# Altium integrated library Cypress Peripheral Multifunction Controller.IntLib: 19 symbols
Pins are listed as number, name and electrical type; pins without a type are passive.

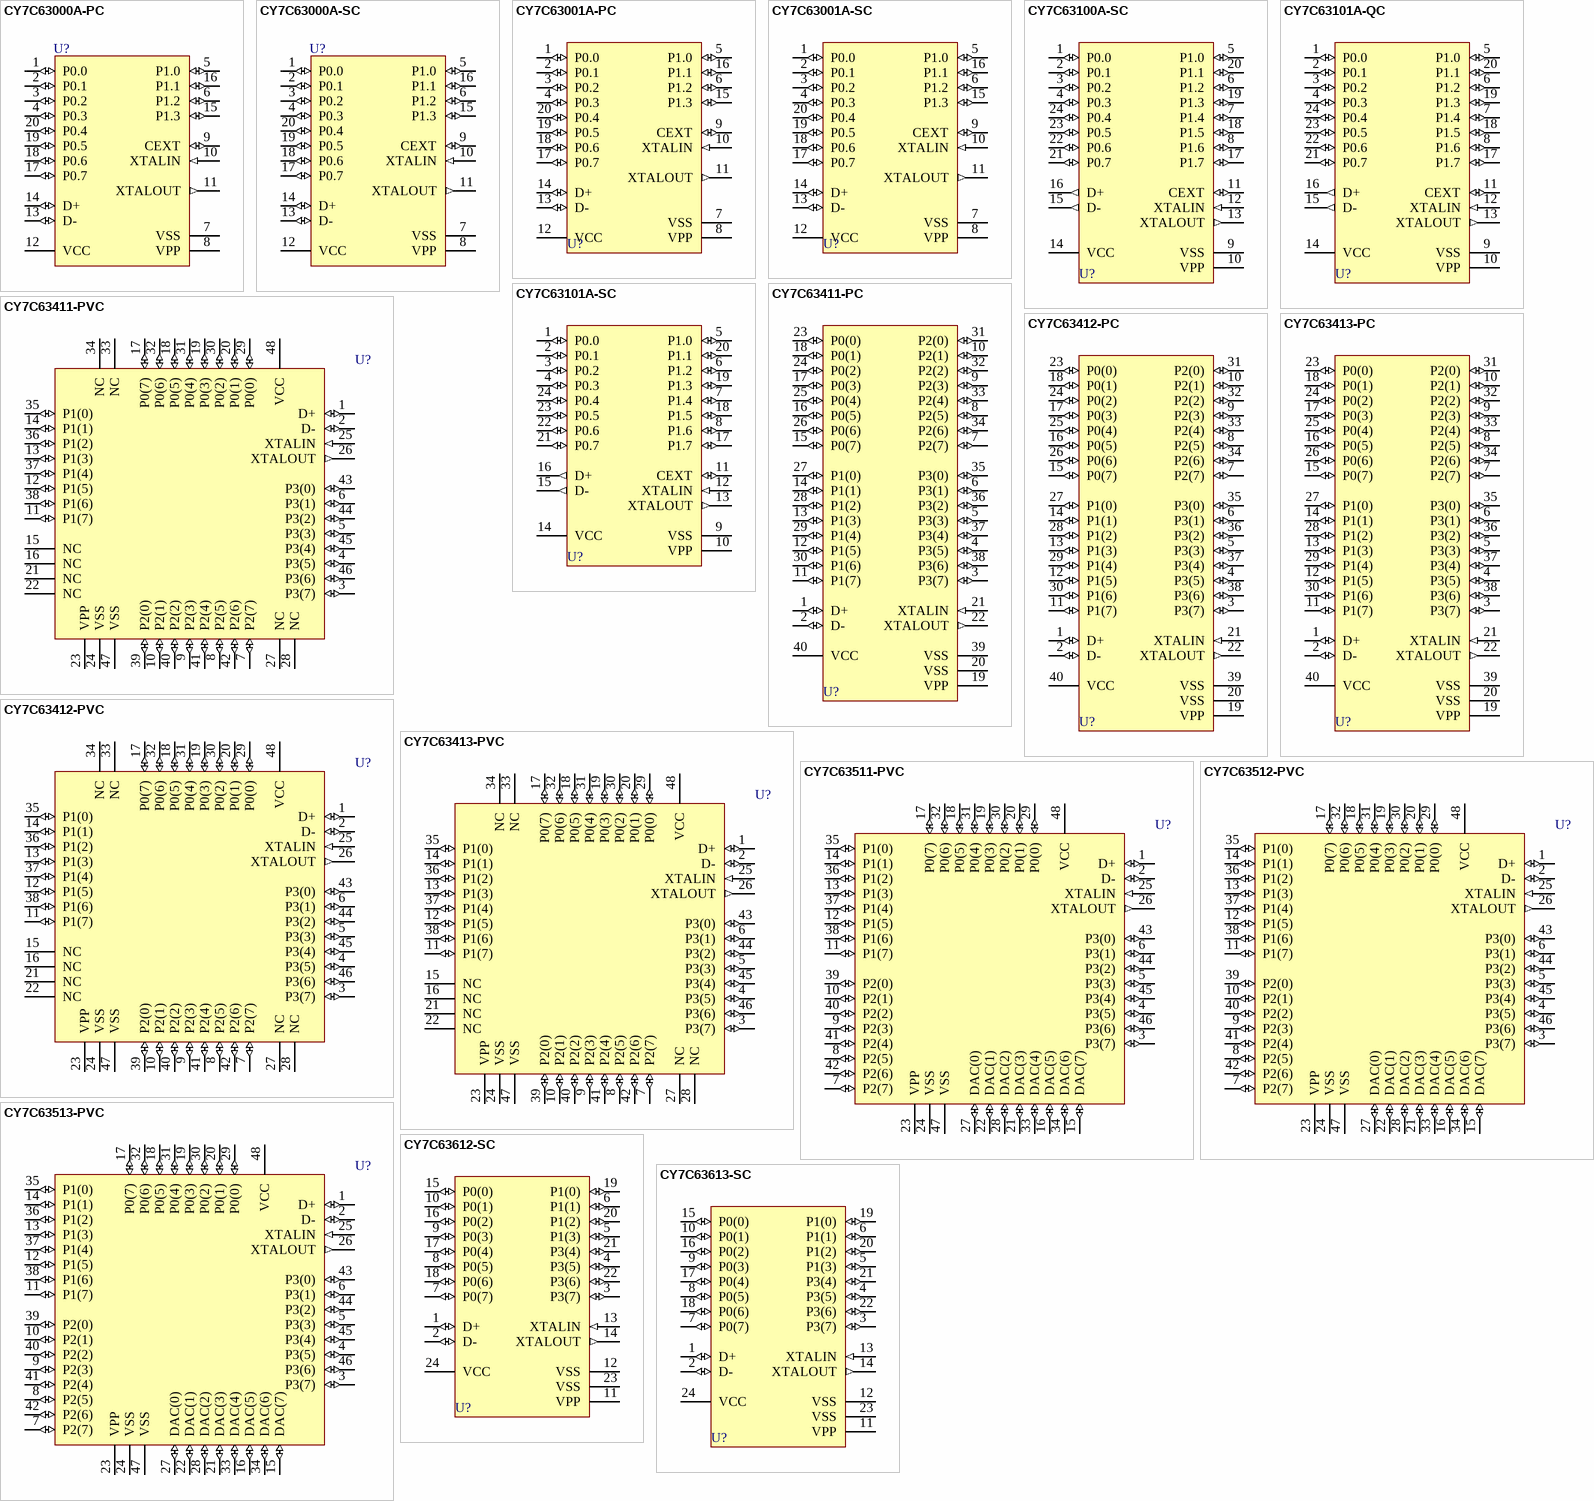
[diagram p0: symbols CY7C63000A-PC to CY7C63613-SC]

## CY7C63000A-PC
designator U?
Universal Serial Bus Microcontroller; Published: 11-Dec-2002; LatestRevisionDate: 04-Mar-2005; LatestRevisionNote: Stylized 3D Model Added.; DatasheetVersion: 24-Apr-2000; PackageVersion: Oct-2004; PackageReference: P5; Publisher: Altium Limited; PackageDescription: DIP, Molded; 20 Leads; Row Spacing 7.62 mm; Pitch 2.54 mm; Code_JEDEC: MS-001-AD; ComponentLink1Description: Manufacturer Link; ComponentLink1URL: http://www.cypress.com/
footprint P5 (DIP, Molded; 20 Leads; Row Spacing 7.62 mm; Pitch 2.54 mm)
3D model P5 (DIP, Molded; 20 Leads; Row Spacing 7.62 mm; Pitch 2.54 mm)
pins: 1 P0.0 (io), 2 P0.1 (io), 3 P0.2 (io), 4 P0.3 (io), 5 P1.0 (io), 6 P1.2 (io), 7 VSS (power), 8 VPP (power), 9 CEXT (io), 10 XTALIN (in), 11 XTALOUT (out), 12 VCC (power), 13 D- (io), 14 D+ (io), 15 P1.3 (io), 16 P1.1 (io), 17 P0.7 (io), 18 P0.6 (io), 19 P0.5 (io), 20 P0.4 (io)

## CY7C63000A-SC
designator U?
Universal Serial Bus Microcontroller; Published: 11-Dec-2002; LatestRevisionDate: 13-Apr-2006; LatestRevisionNote: IPC-7351 Footprint Added.; DatasheetVersion: 24-Apr-2000; PackageVersion: Oct-2004; PackageReference: S5; Publisher: Altium Limited; PackageDescription: 20-Pin Molded Small Outline Integrated Circuit 1.27 mm Pitch; Code_JEDEC: MS-013-AC; Code_IPC: SOIC127P1030-20; ComponentLink1Description: Manufacturer Link; ComponentLink1URL: http://www.cypress.com/
footprint S5_N (SOIC, 20-Leads, Body 12.8x7.5mm, Pitch 1.27mm, IPC Medium Density)
footprint S5_L (SOIC, 20-Leads, Body 12.8x7.5mm, Pitch 1.27mm, IPC High Density)
footprint S5_M (SOIC, 20-Leads, Body 12.8x7.5mm, Pitch 1.27mm, IPC Low Density)
3D model S5 (20-Pin Molded Small Outline Integrated Circuit 1.27 mm Pitch)
pins: 1 P0.0 (io), 2 P0.1 (io), 3 P0.2 (io), 4 P0.3 (io), 5 P1.0 (io), 6 P1.2 (io), 7 VSS (power), 8 VPP (power), 9 CEXT (io), 10 XTALIN (in), 11 XTALOUT (out), 12 VCC (power), 13 D- (io), 14 D+ (io), 15 P1.3 (io), 16 P1.1 (io), 17 P0.7 (io), 18 P0.6 (io), 19 P0.5 (io), 20 P0.4 (io)

## CY7C63001A-PC
designator U?
Universal Serial Bus Microcontroller; Published: 11-Dec-2002; LatestRevisionDate: 04-Mar-2005; LatestRevisionNote: Stylized 3D Model Added.; DatasheetVersion: 24-Apr-2000; PackageVersion: Oct-2004; PackageReference: P5; Publisher: Altium Limited; PackageDescription: DIP, Molded; 20 Leads; Row Spacing 7.62 mm; Pitch 2.54 mm; Code_JEDEC: MS-001-AD; ComponentLink1Description: Manufacturer Link; ComponentLink1URL: http://www.cypress.com/
footprint P5 (DIP, Molded; 20 Leads; Row Spacing 7.62 mm; Pitch 2.54 mm)
3D model P5 (DIP, Molded; 20 Leads; Row Spacing 7.62 mm; Pitch 2.54 mm)
pins: 1 P0.0 (io), 2 P0.1 (io), 3 P0.2 (io), 4 P0.3 (io), 5 P1.0 (io), 6 P1.2 (io), 7 VSS (power), 8 VPP (power), 9 CEXT (io), 10 XTALIN (in), 11 XTALOUT (out), 12 VCC (power), 13 D- (io), 14 D+ (io), 15 P1.3 (io), 16 P1.1 (io), 17 P0.7 (io), 18 P0.6 (io), 19 P0.5 (io), 20 P0.4 (io)

## CY7C63001A-SC
designator U?
Universal Serial Bus Microcontroller; Published: 11-Dec-2002; LatestRevisionDate: 13-Apr-2006; LatestRevisionNote: IPC-7351 Footprint Added.; DatasheetVersion: 24-Apr-2000; PackageVersion: Oct-2004; PackageReference: S5; Publisher: Altium Limited; PackageDescription: 20-Pin Molded Small Outline Integrated Circuit 1.27 mm Pitch; Code_JEDEC: MS-013-AC; Code_IPC: SOIC127P1030-20; ComponentLink1Description: Manufacturer Link; ComponentLink1URL: http://www.cypress.com/
footprint S5_N (SOIC, 20-Leads, Body 12.8x7.5mm, Pitch 1.27mm, IPC Medium Density)
footprint S5_L (SOIC, 20-Leads, Body 12.8x7.5mm, Pitch 1.27mm, IPC High Density)
footprint S5_M (SOIC, 20-Leads, Body 12.8x7.5mm, Pitch 1.27mm, IPC Low Density)
3D model S5 (20-Pin Molded Small Outline Integrated Circuit 1.27 mm Pitch)
pins: 1 P0.0 (io), 2 P0.1 (io), 3 P0.2 (io), 4 P0.3 (io), 5 P1.0 (io), 6 P1.2 (io), 7 VSS (power), 8 VPP (power), 9 CEXT (io), 10 XTALIN (in), 11 XTALOUT (out), 12 VCC (power), 13 D- (io), 14 D+ (io), 15 P1.3 (io), 16 P1.1 (io), 17 P0.7 (io), 18 P0.6 (io), 19 P0.5 (io), 20 P0.4 (io)

## CY7C63100A-SC
designator U?
Universal Serial Bus Microcontroller; Published: 11-Dec-2002; LatestRevisionDate: 13-Apr-2006; LatestRevisionNote: IPC-7351 Footprint Added.; DatasheetVersion: 24-Apr-2000; PackageVersion: Mar-2005; PackageReference: S13; Publisher: Altium Limited; PackageDescription: 24-Pin Molded Small Outline Integrated Circuit 1.27 mm Pitch; Code_JEDEC: MO-119; ComponentLink1Description: Manufacturer Link; ComponentLink1URL: http://www.cypress.com/
footprint S13_N (SOIC, 24-Leads, Body 15.4x7.5mm, Pitch 1.27mm, IPC Medium Density)
footprint S13_L (SOIC, 24-Leads, Body 15.4x7.5mm, Pitch 1.27mm, IPC High Density)
footprint S13_M (SOIC, 24-Leads, Body 15.4x7.5mm, Pitch 1.27mm, IPC Low Density)
3D model S13 (24-Pin Molded Small Outline Integrated Circuit 1.27 mm Pitch)
pins: 1 P0.0 (io), 2 P0.1 (io), 3 P0.2 (io), 4 P0.3 (io), 5 P1.0 (io), 6 P1.2 (io), 7 P1.4 (io), 8 P1.6 (io), 9 VSS (power), 10 VPP (power), 11 CEXT (io), 12 XTALIN (in), 13 XTALOUT (out), 14 VCC (power), 15 D- (out), 16 D+ (out), 17 P1.7 (io), 18 P1.5 (io), 19 P1.3 (io), 20 P1.1 (io), 21 P0.7 (io), 22 P0.6 (io), 23 P0.5 (io), 24 P0.4 (io)

## CY7C63101A-QC
designator U?
Universal Serial Bus Microcontroller; Published: 11-Dec-2002; LatestRevisionDate: 16-Oct-2006; LatestRevisionNote: IPC-7351 Footprint Added.; DatasheetVersion: 24-Apr-2000; PackageVersion: Oct-2004; PackageReference: Q13; Publisher: Altium Limited; PackageDescription: 24-Pin Small Outline Package 0.635 mm Pitch; ComponentLink1Description: Manufacturer Link; ComponentLink1URL: http://www.cypress.com/
footprint Q13_N (SOP, 24-Leads, Body 8.6x3.9mm, Pitch 0.635mm, IPC Medium Density)
footprint Q13_L (SOP, 24-Leads, Body 8.6x3.9mm, Pitch 0.635mm, IPC High Density)
footprint Q13_M (SOP, 24-Leads, Body 8.6x3.9mm, Pitch 0.635mm, IPC Low Density)
3D model Q13A (24-Pin Small Outline Package 0.635 mm Pitch)
pins: 1 P0.0 (io), 2 P0.1 (io), 3 P0.2 (io), 4 P0.3 (io), 5 P1.0 (io), 6 P1.2 (io), 7 P1.4 (io), 8 P1.6 (io), 9 VSS (power), 10 VPP (power), 11 CEXT (io), 12 XTALIN (in), 13 XTALOUT (out), 14 VCC (power), 15 D- (out), 16 D+ (out), 17 P1.7 (io), 18 P1.5 (io), 19 P1.3 (io), 20 P1.1 (io), 21 P0.7 (io), 22 P0.6 (io), 23 P0.5 (io), 24 P0.4 (io)

## CY7C63101A-SC
designator U?
Universal Serial Bus Microcontroller; Published: 11-Dec-2002; LatestRevisionDate: 13-Apr-2006; LatestRevisionNote: IPC-7351 Footprint Added.; DatasheetVersion: 24-Apr-2000; PackageVersion: Mar-2005; PackageReference: S13; Publisher: Altium Limited; PackageDescription: 24-Pin Molded Small Outline Integrated Circuit 1.27 mm Pitch; Code_JEDEC: MO-119; ComponentLink1Description: Manufacturer Link; ComponentLink1URL: http://www.cypress.com/
footprint S13_N (SOIC, 24-Leads, Body 15.4x7.5mm, Pitch 1.27mm, IPC Medium Density)
footprint S13_L (SOIC, 24-Leads, Body 15.4x7.5mm, Pitch 1.27mm, IPC High Density)
footprint S13_M (SOIC, 24-Leads, Body 15.4x7.5mm, Pitch 1.27mm, IPC Low Density)
3D model S13 (24-Pin Molded Small Outline Integrated Circuit 1.27 mm Pitch)
pins: 1 P0.0 (io), 2 P0.1 (io), 3 P0.2 (io), 4 P0.3 (io), 5 P1.0 (io), 6 P1.2 (io), 7 P1.4 (io), 8 P1.6 (io), 9 VSS (power), 10 VPP (power), 11 CEXT (io), 12 XTALIN (in), 13 XTALOUT (out), 14 VCC (power), 15 D- (out), 16 D+ (out), 17 P1.7 (io), 18 P1.5 (io), 19 P1.3 (io), 20 P1.1 (io), 21 P0.7 (io), 22 P0.6 (io), 23 P0.5 (io), 24 P0.4 (io)

## CY7C63411-PC
designator U?
Low-Speed USB Peripheral Controller; Published: 11-Dec-2002; LatestRevisionDate: 04-Mar-2005; LatestRevisionNote: Stylized 3D Model Added.; DatasheetVersion: 13-Feb-2001; PackageVersion: Mar-2005; PackageReference: P17; Publisher: Altium Limited; PackageDescription: DIP, Molded; 40 Leads; Row Spacing 15.24 mm; Pitch 2.54 mm; ComponentLink1Description: Manufacturer Link; ComponentLink1URL: http://www.cypress.com/
footprint P17 (DIP, Molded; 40 Leads; Row Spacing 15.24 mm; Pitch 2.54 mm)
3D model P17 (DIP, Molded; 40 Leads; Row Spacing 15.24 mm; Pitch 2.54 mm)
pins: 1 D+ (io), 2 D- (io), 3 P3(7) (io), 4 P3(5) (io), 5 P3(3) (io), 6 P3(1) (io), 7 P2(7) (io), 8 P2(5) (io), 9 P2(3) (io), 10 P2(1) (io), 11 P1(7) (io), 12 P1(5) (io), 13 P1(3) (io), 14 P1(1) (io), 15 P0(7) (io), 16 P0(5) (io), 17 P0(3) (io), 18 P0(1) (io), 19 VPP (power), 20 VSS (power), 21 XTALIN (in), 22 XTALOUT (out), 23 P0(0) (io), 24 P0(2) (io), 25 P0(4) (io), 26 P0(6) (io), 27 P1(0) (io), 28 P1(2) (io), 29 P1(4) (io), 30 P1(6) (io), 31 P2(0) (io), 32 P2(2) (io), 33 P2(4) (io), 34 P2(6) (io), 35 P3(0) (io), 36 P3(2) (io), 37 P3(4) (io), 38 P3(6) (io), 39 VSS (power), 40 VCC (power)

## CY7C63411-PVC
designator U?
Low-Speed USB Peripheral Controller; Published: 11-Dec-2002; LatestRevisionDate: 16-Oct-2006; LatestRevisionNote: IPC-7351 Footprint Added.; DatasheetVersion: 13-Feb-2001; PackageVersion: Mar-2005; PackageReference: O48; Publisher: Altium Limited; PackageDescription: 48-Pin Small Outline Package 0.635 mm Pitch; Code_JEDEC: MO-118-AA; Code_IPC: SOP635P1035-48; ComponentLink1Description: Manufacturer Link; ComponentLink1URL: http://www.cypress.com/
footprint O48_N (SOP, 48-Leads, Body 15.9x7.5mm, Pitch 0.635mm, IPC Medium Density)
footprint O48_L (SOP, 48-Leads, Body 15.9x7.5mm, Pitch 0.635mm, IPC High Density)
footprint O48_M (SOP, 48-Leads, Body 15.9x7.5mm, Pitch 0.635mm, IPC Low Density)
3D model O48 (48-Pin Small Outline Package 0.635 mm Pitch)
pins: 1 D+ (io), 2 D- (io), 3 P3(7) (io), 4 P3(5) (io), 5 P3(3) (io), 6 P3(1) (io), 7 P2(7) (io), 8 P2(5) (io), 9 P2(3) (io), 10 P2(1) (io), 11 P1(7) (io), 12 P1(5) (io), 13 P1(3) (io), 14 P1(1) (io), 15 NC, 16 NC, 17 P0(7) (io), 18 P0(5) (io), 19 P0(3) (io), 20 P0(1) (io), 21 NC, 22 NC, 23 VPP (power), 24 VSS (power), 25 XTALIN (in), 26 XTALOUT (out), 27 NC, 28 NC, 29 P0(0) (io), 30 P0(2) (io), 31 P0(4) (io), 32 P0(6) (io), 33 NC, 34 NC, 35 P1(0) (io), 36 P1(2) (io), 37 P1(4) (io), 38 P1(6) (io), 39 P2(0) (io), 40 P2(2) (io), 41 P2(4) (io), 42 P2(6) (io), 43 P3(0) (io), 44 P3(2) (io), 45 P3(4) (io), 46 P3(6) (io), 47 VSS (power), 48 VCC (power)

## CY7C63412-PC
designator U?
Low-Speed USB Peripheral Controller; Published: 11-Dec-2002; LatestRevisionDate: 04-Mar-2005; LatestRevisionNote: Stylized 3D Model Added.; DatasheetVersion: 13-Feb-2001; PackageVersion: Mar-2005; PackageReference: P17; Publisher: Altium Limited; PackageDescription: DIP, Molded; 40 Leads; Row Spacing 15.24 mm; Pitch 2.54 mm; ComponentLink1Description: Manufacturer Link; ComponentLink1URL: http://www.cypress.com/
footprint P17 (DIP, Molded; 40 Leads; Row Spacing 15.24 mm; Pitch 2.54 mm)
3D model P17 (DIP, Molded; 40 Leads; Row Spacing 15.24 mm; Pitch 2.54 mm)
pins: 1 D+ (io), 2 D- (io), 3 P3(7) (io), 4 P3(5) (io), 5 P3(3) (io), 6 P3(1) (io), 7 P2(7) (io), 8 P2(5) (io), 9 P2(3) (io), 10 P2(1) (io), 11 P1(7) (io), 12 P1(5) (io), 13 P1(3) (io), 14 P1(1) (io), 15 P0(7) (io), 16 P0(5) (io), 17 P0(3) (io), 18 P0(1) (io), 19 VPP (power), 20 VSS (power), 21 XTALIN (in), 22 XTALOUT (out), 23 P0(0) (io), 24 P0(2) (io), 25 P0(4) (io), 26 P0(6) (io), 27 P1(0) (io), 28 P1(2) (io), 29 P1(4) (io), 30 P1(6) (io), 31 P2(0) (io), 32 P2(2) (io), 33 P2(4) (io), 34 P2(6) (io), 35 P3(0) (io), 36 P3(2) (io), 37 P3(4) (io), 38 P3(6) (io), 39 VSS (power), 40 VCC (power)

## CY7C63412-PVC
designator U?
Low-Speed USB Peripheral Controller; Published: 11-Dec-2002; LatestRevisionDate: 16-Oct-2006; LatestRevisionNote: IPC-7351 Footprint Added.; DatasheetVersion: 13-Feb-2001; PackageVersion: Mar-2005; PackageReference: O48; Publisher: Altium Limited; PackageDescription: 48-Pin Small Outline Package 0.635 mm Pitch; Code_JEDEC: MO-118-AA; Code_IPC: SOP635P1035-48; ComponentLink1Description: Manufacturer Link; ComponentLink1URL: http://www.cypress.com/
footprint O48_N (SOP, 48-Leads, Body 15.9x7.5mm, Pitch 0.635mm, IPC Medium Density)
footprint O48_L (SOP, 48-Leads, Body 15.9x7.5mm, Pitch 0.635mm, IPC High Density)
footprint O48_M (SOP, 48-Leads, Body 15.9x7.5mm, Pitch 0.635mm, IPC Low Density)
3D model O48 (48-Pin Small Outline Package 0.635 mm Pitch)
pins: 1 D+ (io), 2 D- (io), 3 P3(7) (io), 4 P3(5) (io), 5 P3(3) (io), 6 P3(1) (io), 7 P2(7) (io), 8 P2(5) (io), 9 P2(3) (io), 10 P2(1) (io), 11 P1(7) (io), 12 P1(5) (io), 13 P1(3) (io), 14 P1(1) (io), 15 NC, 16 NC, 17 P0(7) (io), 18 P0(5) (io), 19 P0(3) (io), 20 P0(1) (io), 21 NC, 22 NC, 23 VPP (power), 24 VSS (power), 25 XTALIN (in), 26 XTALOUT (out), 27 NC, 28 NC, 29 P0(0) (io), 30 P0(2) (io), 31 P0(4) (io), 32 P0(6) (io), 33 NC, 34 NC, 35 P1(0) (io), 36 P1(2) (io), 37 P1(4) (io), 38 P1(6) (io), 39 P2(0) (io), 40 P2(2) (io), 41 P2(4) (io), 42 P2(6) (io), 43 P3(0) (io), 44 P3(2) (io), 45 P3(4) (io), 46 P3(6) (io), 47 VSS (power), 48 VCC (power)

## CY7C63413-PC
designator U?
Low-Speed USB Peripheral Controller; Published: 11-Dec-2002; LatestRevisionDate: 04-Mar-2005; LatestRevisionNote: Stylized 3D Model Added.; DatasheetVersion: 13-Feb-2001; PackageVersion: Mar-2005; PackageReference: P17; Publisher: Altium Limited; PackageDescription: DIP, Molded; 40 Leads; Row Spacing 15.24 mm; Pitch 2.54 mm; ComponentLink1Description: Manufacturer Link; ComponentLink1URL: http://www.cypress.com/
footprint P17 (DIP, Molded; 40 Leads; Row Spacing 15.24 mm; Pitch 2.54 mm)
3D model P17 (DIP, Molded; 40 Leads; Row Spacing 15.24 mm; Pitch 2.54 mm)
pins: 1 D+ (io), 2 D- (io), 3 P3(7) (io), 4 P3(5) (io), 5 P3(3) (io), 6 P3(1) (io), 7 P2(7) (io), 8 P2(5) (io), 9 P2(3) (io), 10 P2(1) (io), 11 P1(7) (io), 12 P1(5) (io), 13 P1(3) (io), 14 P1(1) (io), 15 P0(7) (io), 16 P0(5) (io), 17 P0(3) (io), 18 P0(1) (io), 19 VPP (power), 20 VSS (power), 21 XTALIN (in), 22 XTALOUT (out), 23 P0(0) (io), 24 P0(2) (io), 25 P0(4) (io), 26 P0(6) (io), 27 P1(0) (io), 28 P1(2) (io), 29 P1(4) (io), 30 P1(6) (io), 31 P2(0) (io), 32 P2(2) (io), 33 P2(4) (io), 34 P2(6) (io), 35 P3(0) (io), 36 P3(2) (io), 37 P3(4) (io), 38 P3(6) (io), 39 VSS (power), 40 VCC (power)

## CY7C63413-PVC
designator U?
Low-Speed USB Peripheral Controller; Published: 11-Dec-2002; LatestRevisionDate: 16-Oct-2006; LatestRevisionNote: IPC-7351 Footprint Added.; DatasheetVersion: 13-Feb-2001; PackageVersion: Mar-2005; PackageReference: O48; Publisher: Altium Limited; PackageDescription: 48-Pin Small Outline Package 0.635 mm Pitch; Code_JEDEC: MO-118-AA; Code_IPC: SOP635P1035-48; ComponentLink1Description: Manufacturer Link; ComponentLink1URL: http://www.cypress.com/
footprint O48_N (SOP, 48-Leads, Body 15.9x7.5mm, Pitch 0.635mm, IPC Medium Density)
footprint O48_L (SOP, 48-Leads, Body 15.9x7.5mm, Pitch 0.635mm, IPC High Density)
footprint O48_M (SOP, 48-Leads, Body 15.9x7.5mm, Pitch 0.635mm, IPC Low Density)
3D model O48 (48-Pin Small Outline Package 0.635 mm Pitch)
pins: 1 D+ (io), 2 D- (io), 3 P3(7) (io), 4 P3(5) (io), 5 P3(3) (io), 6 P3(1) (io), 7 P2(7) (io), 8 P2(5) (io), 9 P2(3) (io), 10 P2(1) (io), 11 P1(7) (io), 12 P1(5) (io), 13 P1(3) (io), 14 P1(1) (io), 15 NC, 16 NC, 17 P0(7) (io), 18 P0(5) (io), 19 P0(3) (io), 20 P0(1) (io), 21 NC, 22 NC, 23 VPP (power), 24 VSS (power), 25 XTALIN (in), 26 XTALOUT (out), 27 NC, 28 NC, 29 P0(0) (io), 30 P0(2) (io), 31 P0(4) (io), 32 P0(6) (io), 33 NC, 34 NC, 35 P1(0) (io), 36 P1(2) (io), 37 P1(4) (io), 38 P1(6) (io), 39 P2(0) (io), 40 P2(2) (io), 41 P2(4) (io), 42 P2(6) (io), 43 P3(0) (io), 44 P3(2) (io), 45 P3(4) (io), 46 P3(6) (io), 47 VSS (power), 48 VCC (power)

## CY7C63511-PVC
designator U?
Low-Speed USB Peripheral Controller; Published: 11-Dec-2002; LatestRevisionDate: 16-Oct-2006; LatestRevisionNote: IPC-7351 Footprint Added.; DatasheetVersion: 13-Feb-2001; PackageVersion: Mar-2005; PackageReference: O48; Publisher: Altium Limited; PackageDescription: 48-Pin Small Outline Package 0.635 mm Pitch; Code_JEDEC: MO-118-AA; Code_IPC: SOP635P1035-48; ComponentLink1Description: Manufacturer Link; ComponentLink1URL: http://www.cypress.com/
footprint O48_N (SOP, 48-Leads, Body 15.9x7.5mm, Pitch 0.635mm, IPC Medium Density)
footprint O48_L (SOP, 48-Leads, Body 15.9x7.5mm, Pitch 0.635mm, IPC High Density)
footprint O48_M (SOP, 48-Leads, Body 15.9x7.5mm, Pitch 0.635mm, IPC Low Density)
3D model O48 (48-Pin Small Outline Package 0.635 mm Pitch)
pins: 1 D+ (io), 2 D- (io), 3 P3(7) (io), 4 P3(5) (io), 5 P3(3) (io), 6 P3(1) (io), 7 P2(7) (io), 8 P2(5) (io), 9 P2(3) (io), 10 P2(1) (io), 11 P1(7) (io), 12 P1(5) (io), 13 P1(3) (io), 14 P1(1) (io), 15 DAC(7) (io), 16 DAC(5) (io), 17 P0(7) (io), 18 P0(5) (io), 19 P0(3) (io), 20 P0(1) (io), 21 DAC(3) (io), 22 DAC(1) (io), 23 VPP (power), 24 VSS (power), 25 XTALIN (in), 26 XTALOUT (out), 27 DAC(0) (io), 28 DAC(2) (io), 29 P0(0) (io), 30 P0(2) (io), 31 P0(4) (io), 32 P0(6) (io), 33 DAC(4) (io), 34 DAC(6) (io), 35 P1(0) (io), 36 P1(2) (io), 37 P1(4) (io), 38 P1(6) (io), 39 P2(0) (io), 40 P2(2) (io), 41 P2(4) (io), 42 P2(6) (io), 43 P3(0) (io), 44 P3(2) (io), 45 P3(4) (io), 46 P3(6) (io), 47 VSS (power), 48 VCC (power)

## CY7C63512-PVC
designator U?
Low-Speed USB Peripheral Controller; Published: 11-Dec-2002; LatestRevisionDate: 16-Oct-2006; LatestRevisionNote: IPC-7351 Footprint Added.; DatasheetVersion: 13-Feb-2001; PackageVersion: Mar-2005; PackageReference: O48; Publisher: Altium Limited; PackageDescription: 48-Pin Small Outline Package 0.635 mm Pitch; Code_JEDEC: MO-118-AA; Code_IPC: SOP635P1035-48; ComponentLink1Description: Manufacturer Link; ComponentLink1URL: http://www.cypress.com/
footprint O48_N (SOP, 48-Leads, Body 15.9x7.5mm, Pitch 0.635mm, IPC Medium Density)
footprint O48_L (SOP, 48-Leads, Body 15.9x7.5mm, Pitch 0.635mm, IPC High Density)
footprint O48_M (SOP, 48-Leads, Body 15.9x7.5mm, Pitch 0.635mm, IPC Low Density)
3D model O48 (48-Pin Small Outline Package 0.635 mm Pitch)
pins: 1 D+ (io), 2 D- (io), 3 P3(7) (io), 4 P3(5) (io), 5 P3(3) (io), 6 P3(1) (io), 7 P2(7) (io), 8 P2(5) (io), 9 P2(3) (io), 10 P2(1) (io), 11 P1(7) (io), 12 P1(5) (io), 13 P1(3) (io), 14 P1(1) (io), 15 DAC(7) (io), 16 DAC(5) (io), 17 P0(7) (io), 18 P0(5) (io), 19 P0(3) (io), 20 P0(1) (io), 21 DAC(3) (io), 22 DAC(1) (io), 23 VPP (power), 24 VSS (power), 25 XTALIN (in), 26 XTALOUT (out), 27 DAC(0) (io), 28 DAC(2) (io), 29 P0(0) (io), 30 P0(2) (io), 31 P0(4) (io), 32 P0(6) (io), 33 DAC(4) (io), 34 DAC(6) (io), 35 P1(0) (io), 36 P1(2) (io), 37 P1(4) (io), 38 P1(6) (io), 39 P2(0) (io), 40 P2(2) (io), 41 P2(4) (io), 42 P2(6) (io), 43 P3(0) (io), 44 P3(2) (io), 45 P3(4) (io), 46 P3(6) (io), 47 VSS (power), 48 VCC (power)

## CY7C63513-PVC
designator U?
Low-Speed USB Peripheral Controller; Published: 11-Dec-2002; LatestRevisionDate: 16-Oct-2006; LatestRevisionNote: IPC-7351 Footprint Added.; DatasheetVersion: 13-Feb-2001; PackageVersion: Mar-2005; PackageReference: O48; Publisher: Altium Limited; PackageDescription: 48-Pin Small Outline Package 0.635 mm Pitch; Code_JEDEC: MO-118-AA; Code_IPC: SOP635P1035-48; ComponentLink1Description: Manufacturer Link; ComponentLink1URL: http://www.cypress.com/
footprint O48_N (SOP, 48-Leads, Body 15.9x7.5mm, Pitch 0.635mm, IPC Medium Density)
footprint O48_L (SOP, 48-Leads, Body 15.9x7.5mm, Pitch 0.635mm, IPC High Density)
footprint O48_M (SOP, 48-Leads, Body 15.9x7.5mm, Pitch 0.635mm, IPC Low Density)
3D model O48 (48-Pin Small Outline Package 0.635 mm Pitch)
pins: 1 D+ (io), 2 D- (io), 3 P3(7) (io), 4 P3(5) (io), 5 P3(3) (io), 6 P3(1) (io), 7 P2(7) (io), 8 P2(5) (io), 9 P2(3) (io), 10 P2(1) (io), 11 P1(7) (io), 12 P1(5) (io), 13 P1(3) (io), 14 P1(1) (io), 15 DAC(7) (io), 16 DAC(5) (io), 17 P0(7) (io), 18 P0(5) (io), 19 P0(3) (io), 20 P0(1) (io), 21 DAC(3) (io), 22 DAC(1) (io), 23 VPP (power), 24 VSS (power), 25 XTALIN (in), 26 XTALOUT (out), 27 DAC(0) (io), 28 DAC(2) (io), 29 P0(0) (io), 30 P0(2) (io), 31 P0(4) (io), 32 P0(6) (io), 33 DAC(4) (io), 34 DAC(6) (io), 35 P1(0) (io), 36 P1(2) (io), 37 P1(4) (io), 38 P1(6) (io), 39 P2(0) (io), 40 P2(2) (io), 41 P2(4) (io), 42 P2(6) (io), 43 P3(0) (io), 44 P3(2) (io), 45 P3(4) (io), 46 P3(6) (io), 47 VSS (power), 48 VCC (power)

## CY7C63612-SC
designator U?
Low-Speed USB Peripheral Controller; Published: 11-Dec-2002; LatestRevisionDate: 13-Apr-2006; LatestRevisionNote: IPC-7351 Footprint Added.; DatasheetVersion: 13-Feb-2001; PackageVersion: Mar-2005; PackageReference: S13; Publisher: Altium Limited; PackageDescription: 24-Pin Molded Small Outline Integrated Circuit 1.27 mm Pitch; Code_JEDEC: MO-119; ComponentLink1Description: Manufacturer Link; ComponentLink1URL: http://www.cypress.com/
footprint S13_N (SOIC, 24-Leads, Body 15.4x7.5mm, Pitch 1.27mm, IPC Medium Density)
footprint S13_L (SOIC, 24-Leads, Body 15.4x7.5mm, Pitch 1.27mm, IPC High Density)
footprint S13_M (SOIC, 24-Leads, Body 15.4x7.5mm, Pitch 1.27mm, IPC Low Density)
3D model S13 (24-Pin Molded Small Outline Integrated Circuit 1.27 mm Pitch)
pins: 1 D+ (io), 2 D- (io), 3 P3(7) (io), 4 P3(5) (io), 5 P1(3) (io), 6 P1(1) (io), 7 P0(7) (io), 8 P0(5) (io), 9 P0(3) (io), 10 P0(1) (io), 11 VPP (power), 12 VSS (power), 13 XTALIN (in), 14 XTALOUT (out), 15 P0(0) (io), 16 P0(2) (io), 17 P0(4) (io), 18 P0(6) (io), 19 P1(0) (io), 20 P1(2) (io), 21 P3(4) (io), 22 P3(6) (io), 23 VSS (power), 24 VCC (power)

## CY7C63613-SC
designator U?
Low-Speed USB Peripheral Controller; Published: 11-Dec-2002; LatestRevisionDate: 13-Apr-2006; LatestRevisionNote: IPC-7351 Footprint Added.; DatasheetVersion: 13-Feb-2001; PackageVersion: Mar-2005; PackageReference: S13; Publisher: Altium Limited; PackageDescription: 24-Pin Molded Small Outline Integrated Circuit 1.27 mm Pitch; Code_JEDEC: MO-119; ComponentLink1Description: Manufacturer Link; ComponentLink1URL: http://www.cypress.com/
footprint S13_N (SOIC, 24-Leads, Body 15.4x7.5mm, Pitch 1.27mm, IPC Medium Density)
footprint S13_L (SOIC, 24-Leads, Body 15.4x7.5mm, Pitch 1.27mm, IPC High Density)
footprint S13_M (SOIC, 24-Leads, Body 15.4x7.5mm, Pitch 1.27mm, IPC Low Density)
3D model S13 (24-Pin Molded Small Outline Integrated Circuit 1.27 mm Pitch)
pins: 1 D+ (io), 2 D- (io), 3 P3(7) (io), 4 P3(5) (io), 5 P1(3) (io), 6 P1(1) (io), 7 P0(7) (io), 8 P0(5) (io), 9 P0(3) (io), 10 P0(1) (io), 11 VPP (power), 12 VSS (power), 13 XTALIN (in), 14 XTALOUT (out), 15 P0(0) (io), 16 P0(2) (io), 17 P0(4) (io), 18 P0(6) (io), 19 P1(0) (io), 20 P1(2) (io), 21 P3(4) (io), 22 P3(6) (io), 23 VSS (power), 24 VCC (power)

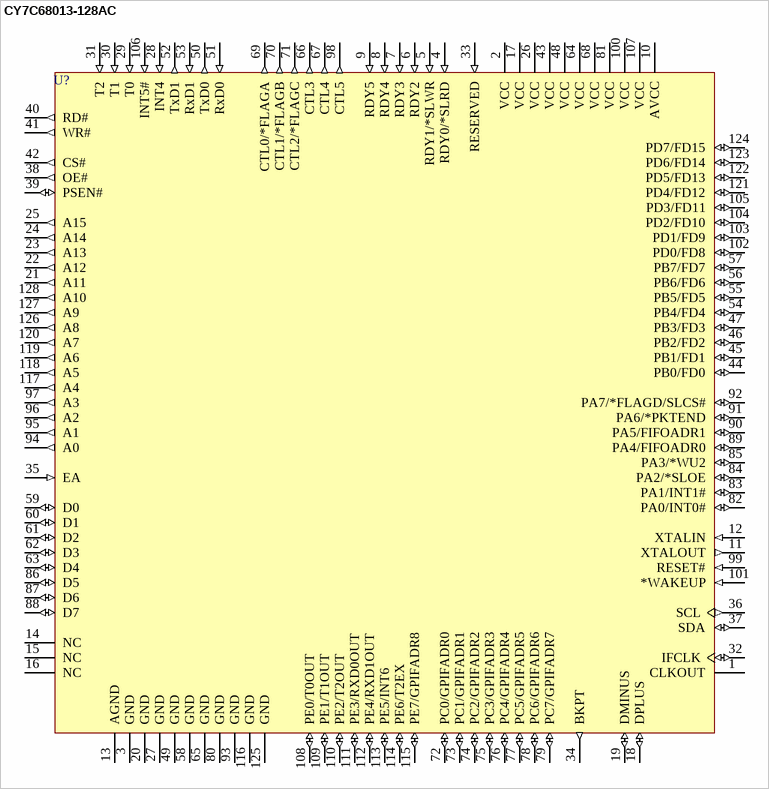
[diagram p1: symbol CY7C68013-128AC]

## CY7C68013-128AC
designator U?
EZ-USB FX2 USB Microcontroller High-speed USB Peripheral Controller, 128-Pin TQFP; Note: * denotes programmable polarity.; Published: 26-May-2004; LatestRevisionDate: 13-Apr-2006; LatestRevisionNote: IPC-7351 Footprint Added.; DatasheetVersion: Rev. *C, Dec-2002; PackageVersion: Rev. *C, 19-Dec-2002; PackageReference: A128; Publisher: Altium Limited; PackageDescription: 128-Pin Thin Quad Flat Pack Rectangular 0.5 mm Pitch; ComponentLink1Description: Manufacturer Link; ComponentLink1URL: http://www.cypress.com; ComponentLink2Description: Datasheet; ComponentLink2URL: http://www.cypress.com/portal/server.pt/gateway/PTARGS_0_2_1524_209_259_43/http%3B/sjapp20.mis.cypress.com%3B7001/publishedcontent/publish/design_resources/datasheets/contents/cy7c68013_5.pdf
footprint A128_N (Thin QFP, 128-Leads, Body 20x14 mm, Pitch 0.5mm, IPC Medium Density)
footprint A128_L (Thin QFP, 128-Leads, Body 20x14 mm, Pitch 0.5mm, IPC High Density)
footprint A128_M (Thin QFP, 128-Leads, Body 20x14 mm, Pitch 0.5mm, IPC Low Density)
3D model A128 (128-Pin Thin Quad Flat Pack Rectangular 0.5 mm Pitch)
pins: 1 CLKOUT (hiz), 2 VCC (power), 3 GND (power), 4 RDY0/*SLRD (in), 5 RDY1/*SLWR (in), 6 RDY2 (in), 7 RDY3 (in), 8 RDY4 (in), 9 RDY5 (in), 10 AVCC (power), 11 XTALOUT (out), 12 XTALIN (in), 13 AGND (power), 14 NC, 15 NC, 16 NC, 17 VCC (power), 18 DPLUS (io), 19 DMINUS (io), 20 GND (power), 21 A11 (out), 22 A12 (out), 23 A13 (out), 24 A14 (out), 25 A15 (out), 26 VCC (power), 27 GND (power), 28 INT4 (in), 29 T0 (in), 30 T1 (in), 31 T2 (in), 32 IFCLK (io), 33 RESERVED (in), 34 BKPT (out), 35 EA (in), 36 SCL (out), 37 SDA (io), 38 OE# (out), 39 PSEN# (io), 40 RD# (out), 41 WR# (out), 42 CS# (out), 43 VCC (power), 44 PB0/FD0 (io), 45 PB1/FD1 (io), 46 PB2/FD2 (io), 47 PB3/FD3 (io), 48 VCC (power), 49 GND (power), 50 TxD0 (out), 51 RxD0 (in), 52 TxD1 (out), 53 RxD1 (in), 54 PB4/FD4 (io), 55 PB5/FD5 (io), 56 PB6/FD6 (io), 57 PB7/FD7 (io), 58 GND (power), 59 D0 (io), 60 D1 (io), 61 D2 (io), 62 D3 (io), 63 D4 (io), 64 VCC (power), 65 GND (power), 66 CTL3 (out), 67 CTL4 (out), 68 VCC (power), 69 CTL0/*FLAGA (out), 70 CTL1/*FLAGB (out), 71 CTL2/*FLAGC (out), 72 PC0/GPIFADR0 (io), 73 PC1/GPIFADR1 (io), 74 PC2/GPIFADR2 (io), 75 PC3/GPIFADR3 (io), 76 PC4/GPIFADR4 (io), 77 PC5/GPIFADR5 (io), 78 PC6/GPIFADR6 (io), 79 PC7/GPIFADR7 (io), 80 GND (power), 81 VCC (power), 82 PA0/INT0# (io), 83 PA1/INT1# (io), 84 PA2/*SLOE (io), 85 PA3/*WU2 (io), 86 D5 (io), 87 D6 (io), 88 D7 (io), 89 PA4/FIFOADR0 (io), 90 PA5/FIFOADR1 (io), 91 PA6/*PKTEND (io), 92 PA7/*FLAGD/SLCS# (io), 93 GND (power), 94 A0 (out), 95 A1 (out), 96 A2 (out), 97 A3 (out), 98 CTL5 (out), 99 RESET# (in), 100 VCC (power), 101 *WAKEUP (in), 102 PD0/FD8 (io), 103 PD1/FD9 (io), 104 PD2/FD10 (io), 105 PD3/FD11 (io), 106 INT5# (in), 107 VCC (power), 108 PE0/T0OUT (io), 109 PE1/T1OUT (io), 110 PE2/T2OUT (io), 111 PE3/RXD0OUT (io), 112 PE4/RXD1OUT (io), 113 PE5/INT6 (io), 114 PE6/T2EX (io), 115 PE7/GPIFADR8 (io), 116 GND (power), 117 A4 (out), 118 A5 (out), 119 A6 (out), 120 A7 (out), 121 PD4/FD12 (io), 122 PD5/FD13 (io), 123 PD6/FD14 (io), 124 PD7/FD15 (io), 125 GND (power), 126 A8 (out), 127 A9 (out), 128 A10 (out)